# EAGLE library part WM8731 (library EurorackModularParts)
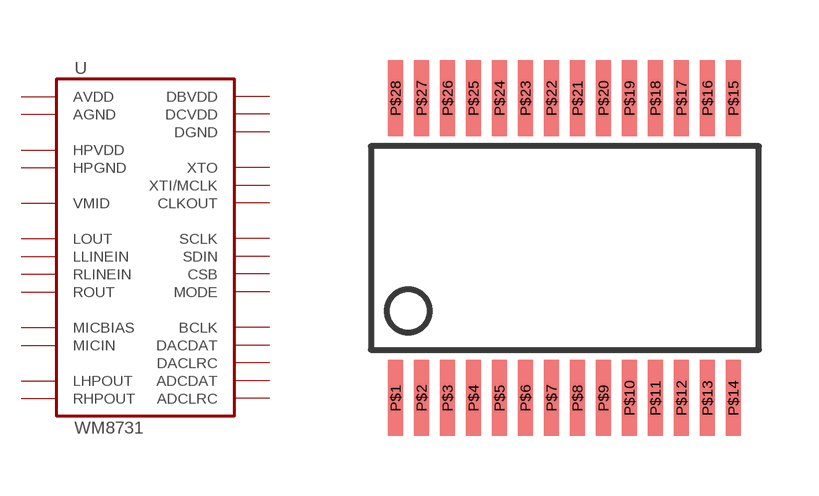
[diagram p29: symbol with the pads of 28-SSOP; footprint 28-SSOP]

Designator prefix -

## WM8731  [28-SSOP]
P$1  DBVDD  pwr
P$2  CLKOUT  out
P$3  BCLK
P$4  DACDAT  in
P$5  DACLRC
P$6  ADCDAT  out
P$7  ADCLRC
P$8  HPVDD  pwr
P$9  LHPOUT  out
P$10  RHPOUT  out
P$11  HPGND  pwr
P$12  LOUT  out
P$13  ROUT  out
P$14  AVDD  pwr
P$15  AGND  pwr
P$16  VMID  out
P$17  MICBIAS  out
P$18  MICIN  in
P$19  RLINEIN  in
P$20  LLINEIN  in
P$21  MODE  in
P$22  CSB  in
P$23  SDIN
P$24  SCLK  in
P$25  XTI/MCLK  in
P$26  XTO  out
P$27  DCVDD  pwr
P$28  DGND  pwr

## Footprint 28-SSOP (pad centres in mm)
smd 0.381 x 1.905: P$1 -4.55,-3.752; P$2 -3.9,-3.752; P$3 -3.25,-3.752; P$4 -2.6,-3.752; P$5 -1.95,-3.752; P$6 -1.3,-3.752; P$7 -0.65,-3.752; P$8 0,-3.752; P$9 0.65,-3.752; P$10 1.3,-3.752; P$11 1.95,-3.752; P$12 2.6,-3.752; P$13 3.25,-3.752; P$14 3.9,-3.752; P$15 3.9,3.752; P$16 3.25,3.752; P$17 2.6,3.752; P$18 1.95,3.752; P$19 1.3,3.752; P$20 0.65,3.752; P$21 0,3.752; P$22 -0.65,3.752; P$23 -1.3,3.752; P$24 -1.95,3.752; P$25 -2.6,3.752; P$26 -3.25,3.752; P$27 -3.9,3.752; P$28 -4.55,3.752